# Altium schematic symbol library SCH - MCU - SI LABS - SI LABS EFM32ZG222F4 48-PIN QFP 7X7.SchLib: 1 symbol
Pins are listed as number, name and electrical type; pins without a type are passive.

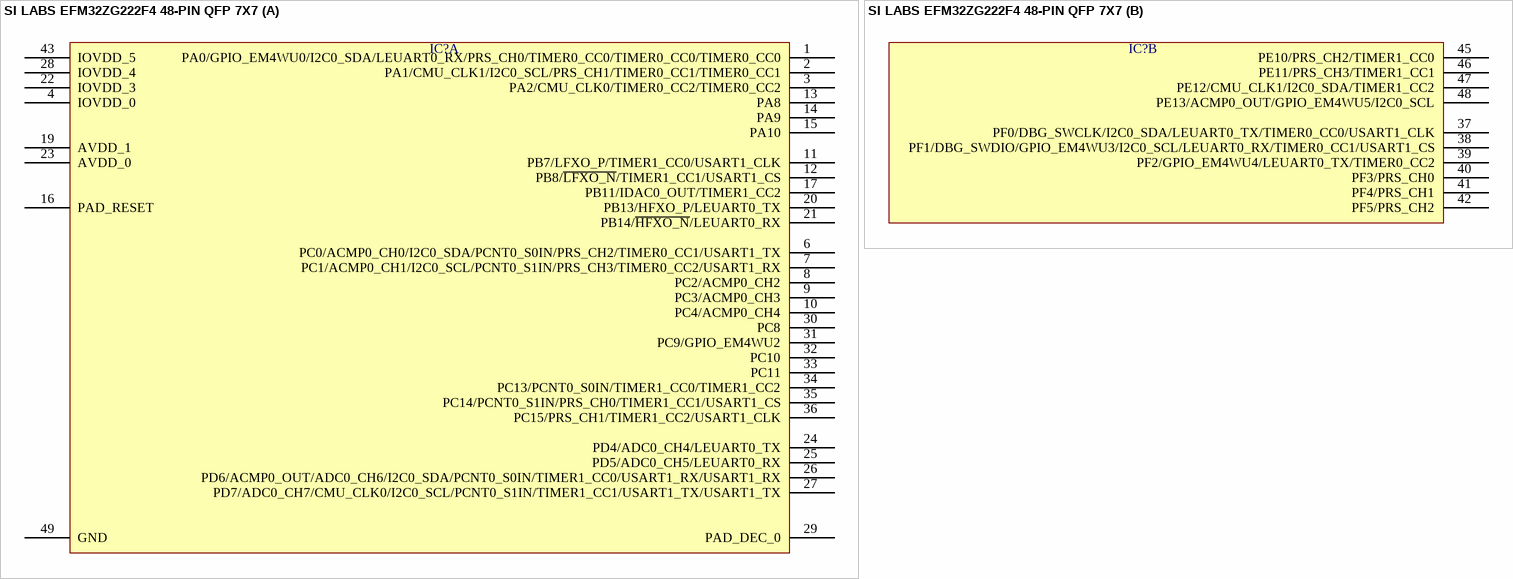
[diagram p0: symbol SI LABS EFM32ZG222F4 48-PIN QFP 7X7]

## SI LABS EFM32ZG222F4 48-PIN QFP 7X7
designator IC?  (value not drawn)
part A pins: 1 PA0/GPIO_EM4WU0/I2C0_SDA/LEUART0_RX/PRS_CH0/TIMER0_CC0/TIMER0_CC0/TIMER0_CC0, 2 PA1/CMU_CLK1/I2C0_SCL/PRS_CH1/TIMER0_CC1/TIMER0_CC1, 3 PA2/CMU_CLK0/TIMER0_CC2/TIMER0_CC2, 4 IOVDD_0, 6 PC0/ACMP0_CH0/I2C0_SDA/PCNT0_S0IN/PRS_CH2/TIMER0_CC1/USART1_TX, 7 PC1/ACMP0_CH1/I2C0_SCL/PCNT0_S1IN/PRS_CH3/TIMER0_CC2/USART1_RX, 8 PC2/ACMP0_CH2, 9 PC3/ACMP0_CH3, 10 PC4/ACMP0_CH4, 11 PB7/LFXO_P/TIMER1_CC0/USART1_CLK, 12 PB8/~{LFXO_N}/TIMER1_CC1/USART1_CS, 13 PA8, 14 PA9, 15 PA10, 16 PAD_RESET, 17 PB11/IDAC0_OUT/TIMER1_CC2, 19 AVDD_1, 20 PB13/HFXO_P/LEUART0_TX, 21 PB14/~{HFXO_N}/LEUART0_RX, 22 IOVDD_3, 23 AVDD_0, 24 PD4/ADC0_CH4/LEUART0_TX, 25 PD5/ADC0_CH5/LEUART0_RX, 26 PD6/ACMP0_OUT/ADC0_CH6/I2C0_SDA/PCNT0_S0IN/TIMER1_CC0/USART1_RX/USART1_RX, 27 PD7/ADC0_CH7/CMU_CLK0/I2C0_SCL/PCNT0_S1IN/TIMER1_CC1/USART1_TX/USART1_TX, 28 IOVDD_4, 29 PAD_DEC_0, 30 PC8, 31 PC9/GPIO_EM4WU2, 32 PC10, 33 PC11, 34 PC13/PCNT0_S0IN/TIMER1_CC0/TIMER1_CC2, 35 PC14/PCNT0_S1IN/PRS_CH0/TIMER1_CC1/USART1_CS, 36 PC15/PRS_CH1/TIMER1_CC2/USART1_CLK, 43 IOVDD_5, 49 GND
part B pins: 37 PF0/DBG_SWCLK/I2C0_SDA/LEUART0_TX/TIMER0_CC0/USART1_CLK, 38 PF1/DBG_SWDIO/GPIO_EM4WU3/I2C0_SCL/LEUART0_RX/TIMER0_CC1/USART1_CS, 39 PF2/GPIO_EM4WU4/LEUART0_TX/TIMER0_CC2, 40 PF3/PRS_CH0, 41 PF4/PRS_CH1, 42 PF5/PRS_CH2, 45 PE10/PRS_CH2/TIMER1_CC0, 46 PE11/PRS_CH3/TIMER1_CC1, 47 PE12/CMU_CLK1/I2C0_SDA/TIMER1_CC2, 48 PE13/ACMP0_OUT/GPIO_EM4WU5/I2C0_SCL